# Altium footprint library WP-SMBU.PcbLib: 22 footprints (part 2 of 2)
Each footprint in its own frame and in the unit in brackets; x right, y up, seen from the top. Pads: shape width x height; smd on the part's side, far side on the other; paste and mask are expansions set on the pad; w line width, h text height; cw(c..) or ccw(c..) is an arc to the next point about the centre after c.
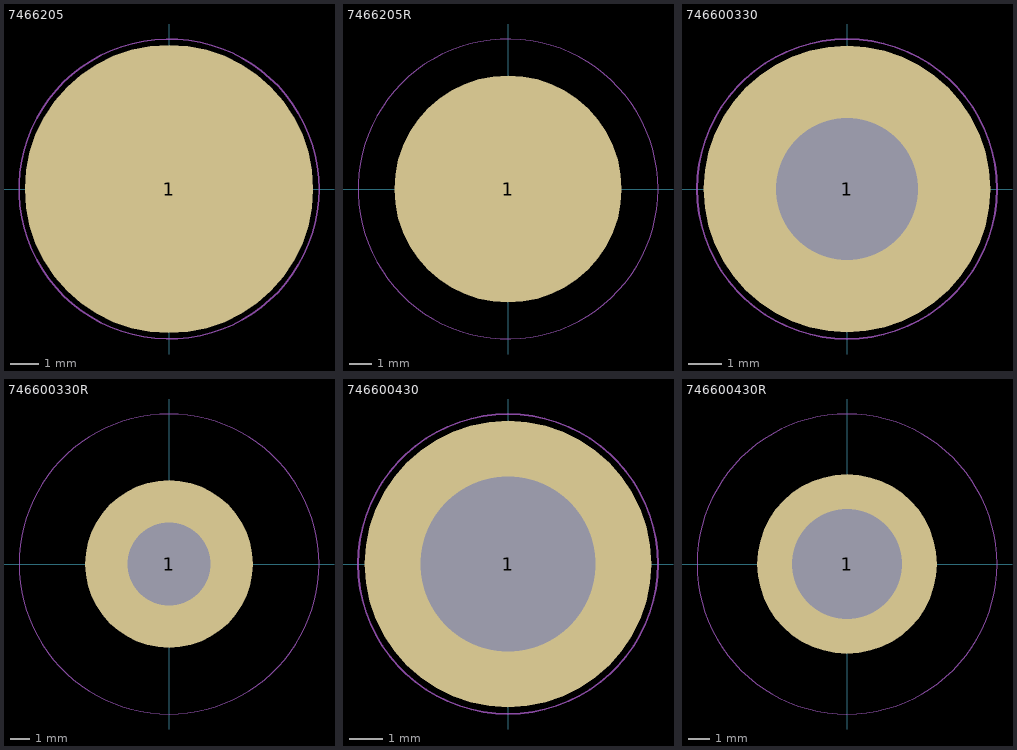
[diagram p1: the footprints below, top view; thin cyan lines are the x and y axes]

## 7466205 [mm] "SMD with internal blind-hole thread, M5 - 4 mm"
height 7
pads (1):
  round 10 smd paste-403.566: 1(0,0)
Top Paste:
  region: 0.5,4.874 0.778,4.846 1.323,4.726 1.852,4.545 2.356,4.305 2.83,4.01 3.267,3.662 3.662,3.267 4.01,2.83 4.305,2.356 4.545,1.852 4.726,1.323 4.846,0.778 4.874,0.5 0.5,0.5
  region: 4.874,-0.5 4.846,-0.778 4.726,-1.323 4.545,-1.852 4.305,-2.356 4.01,-2.83 3.662,-3.267 3.267,-3.662 2.83,-4.01 2.356,-4.305 1.852,-4.545 1.323,-4.726 0.778,-4.846 0.5,-4.874 0.5,-0.5
  region: -0.5,-4.874 -0.778,-4.846 -1.323,-4.726 -1.852,-4.545 -2.356,-4.305 -2.83,-4.01 -3.267,-3.662 -3.662,-3.267 -4.01,-2.83 -4.305,-2.356 -4.545,-1.852 -4.726,-1.323 -4.846,-0.778 -4.874,-0.5 -0.5,-0.5
  region: -4.874,0.5 -4.846,0.778 -4.726,1.323 -4.545,1.852 -4.305,2.356 -4.01,2.83 -3.662,3.267 -3.267,3.662 -2.83,4.01 -2.356,4.305 -1.852,4.545 -1.323,4.726 -0.778,4.846 -0.5,4.874 -0.5,0.5
M11 Assembly Top:
  circle w0.1: c0,0 r4.5
  text ".Designator" at -1.75,-0.75 h1.5
M13 3D Top:
  circle w0.1: c0,0 r4.5
M15 Courtyard Top:
  circle w0.05: c0,0 r5.2
  lines w0.05: -0.5,0 0.5,0 ; 0,-0.5 0,0.5
3D body "7466205.stp": height 7, standoff 0, extent -4.5,-4.5 4.5,4.5

## 7466205R [mm] "SMD with internal blind-hole thread, M5 - 4 mm"
height 7
pads (1):
  round 10 smd paste-403.566: 1(0,0)
Top Paste:
  region: -4.874,0.5 -4.846,0.778 -4.726,1.323 -4.545,1.852 -4.305,2.356 -4.01,2.83 -3.662,3.267 -3.267,3.662 -2.83,4.01 -2.356,4.305 -1.852,4.545 -1.323,4.726 -0.778,4.846 -0.5,4.874 -0.5,0.5
  region: -0.5,-4.874 -0.778,-4.846 -1.323,-4.726 -1.852,-4.545 -2.356,-4.305 -2.83,-4.01 -3.267,-3.662 -3.662,-3.267 -4.01,-2.83 -4.305,-2.356 -4.545,-1.852 -4.726,-1.323 -4.846,-0.778 -4.874,-0.5 -0.5,-0.5
  region: 4.874,-0.5 4.846,-0.778 4.726,-1.323 4.545,-1.852 4.305,-2.356 4.01,-2.83 3.662,-3.267 3.267,-3.662 2.83,-4.01 2.356,-4.305 1.852,-4.545 1.323,-4.726 0.778,-4.846 0.5,-4.874 0.5,-0.5
  region: 0.5,4.874 0.778,4.846 1.323,4.726 1.852,4.545 2.356,4.305 2.83,4.01 3.267,3.662 3.662,3.267 4.01,2.83 4.305,2.356 4.545,1.852 4.726,1.323 4.846,0.778 4.874,0.5 0.5,0.5
M11 Assembly Top:
  circle w0.1: c0,0 r4.5
  text ".Designator" at -1.75,-0.75 h1.5
M13 3D Top:
  circle w0.1: c0,0 r4.5
M15 Courtyard Top:
  circle w0.05: c0,0 r6.6
  lines w0.05: -0.5,0 0.5,0 ; 0,-0.5 0,0.5
3D body "7466205.stp": height 7, standoff 0, extent -4.5,-4.5 4.5,4.5

## 746600330 [mm] "SMD with internal through-hole thread, M3-4mm"
height 3
pads (1):
  round 8.5 / inner round 0 / far side round 0 hole 4.2 unplated: 1(0,0)
Top Paste:
  region: -4.12,0.5 -2.194,0.5 -2.153,0.653 -2.041,0.947 -1.888,1.223 -1.699,1.476 -1.476,1.699 -1.223,1.888 -0.947,2.041 -0.653,2.153 -0.5,2.194 -0.5,4.12 -0.729,4.092 -1.176,3.986 -1.61,3.832 -2.024,3.63 -2.413,3.385 -2.772,3.097 -3.097,2.772 -3.385,2.412 -3.631,2.023 -3.832,1.61 -3.986,1.176 -4.092,0.728
  region: -0.5,-4.12 -0.5,-2.194 -0.653,-2.153 -0.947,-2.041 -1.223,-1.888 -1.476,-1.699 -1.699,-1.476 -1.888,-1.223 -2.041,-0.947 -2.153,-0.653 -2.194,-0.5 -4.12,-0.5 -4.092,-0.729 -3.986,-1.176 -3.832,-1.61 -3.63,-2.024 -3.385,-2.413 -3.097,-2.772 -2.772,-3.097 -2.412,-3.385 -2.023,-3.631 -1.61,-3.832 -1.176,-3.986 -0.728,-4.092
  region: 4.12,-0.5 2.194,-0.5 2.153,-0.653 2.041,-0.947 1.888,-1.223 1.699,-1.476 1.476,-1.699 1.223,-1.888 0.947,-2.041 0.653,-2.153 0.5,-2.194 0.5,-4.12 0.729,-4.092 1.176,-3.986 1.61,-3.832 2.024,-3.63 2.413,-3.385 2.772,-3.097 3.097,-2.772 3.385,-2.412 3.631,-2.023 3.832,-1.61 3.986,-1.176 4.092,-0.728
  region: 0.5,4.12 0.5,2.194 0.653,2.153 0.947,2.041 1.223,1.888 1.476,1.699 1.699,1.476 1.888,1.223 2.041,0.947 2.153,0.653 2.194,0.5 4.12,0.5 4.092,0.729 3.986,1.176 3.832,1.61 3.63,2.024 3.385,2.413 3.097,2.772 2.772,3.097 2.412,3.385 2.023,3.631 1.61,3.832 1.176,3.986 0.728,4.092
M11 Assembly Top:
  circle w0.1: c0,0 r3.5
  text ".Designator" at -1.75,-0.75 h1.5
M13 3D Top:
  circle w0.1: c0,0 r3.5
M15 Courtyard Top:
  circle w0.05: c0,0 r4.45
  lines w0.05: -0.5,0 0.5,0 ; 0,-0.5 0,0.5
3D body "746600330.stp": height 3, standoff -1, extent -3.5,-3.499 3.5,3.499

## 746600330R [mm] "SMD with internal through-hole thread, M3-4mm"
height 3
pads (1):
  round 8.5 / inner round 0 / far side round 0 hole 4.2 unplated: 1(0,0)
Top Paste:
  region: -4.12,0.5 -2.194,0.5 -2.153,0.653 -2.041,0.947 -1.888,1.223 -1.699,1.476 -1.476,1.699 -1.223,1.888 -0.947,2.041 -0.653,2.153 -0.5,2.194 -0.5,4.12 -0.729,4.092 -1.176,3.986 -1.61,3.832 -2.024,3.63 -2.413,3.385 -2.772,3.097 -3.097,2.772 -3.385,2.412 -3.631,2.023 -3.832,1.61 -3.986,1.176 -4.092,0.728
  region: -0.5,-4.12 -0.5,-2.194 -0.653,-2.153 -0.947,-2.041 -1.223,-1.888 -1.476,-1.699 -1.699,-1.476 -1.888,-1.223 -2.041,-0.947 -2.153,-0.653 -2.194,-0.5 -4.12,-0.5 -4.092,-0.729 -3.986,-1.176 -3.832,-1.61 -3.63,-2.024 -3.385,-2.413 -3.097,-2.772 -2.772,-3.097 -2.412,-3.385 -2.023,-3.631 -1.61,-3.832 -1.176,-3.986 -0.728,-4.092
  region: 4.12,-0.5 2.194,-0.5 2.153,-0.653 2.041,-0.947 1.888,-1.223 1.699,-1.476 1.476,-1.699 1.223,-1.888 0.947,-2.041 0.653,-2.153 0.5,-2.194 0.5,-4.12 0.729,-4.092 1.176,-3.986 1.61,-3.832 2.024,-3.63 2.413,-3.385 2.772,-3.097 3.097,-2.772 3.385,-2.412 3.631,-2.023 3.832,-1.61 3.986,-1.176 4.092,-0.728
  region: 0.5,4.12 0.5,2.194 0.653,2.153 0.947,2.041 1.223,1.888 1.476,1.699 1.699,1.476 1.888,1.223 2.041,0.947 2.153,0.653 2.194,0.5 4.12,0.5 4.092,0.729 3.986,1.176 3.832,1.61 3.63,2.024 3.385,2.413 3.097,2.772 2.772,3.097 2.412,3.385 2.023,3.631 1.61,3.832 1.176,3.986 0.728,4.092
M11 Assembly Top:
  circle w0.1: c0,0 r3.5
  text ".Designator" at -1.75,-0.75 h1.5
M13 3D Top:
  circle w0.1: c0,0 r3.5
M15 Courtyard Top:
  circle w0.05: c0,0 r7.6
  lines w0.05: -0.5,0 0.5,0 ; 0,-0.5 0,0.5
3D body "746600330.stp": height 3, standoff -1, extent -3.5,-3.499 3.5,3.499

## 746600430 [mm] "SMD with internal through-hole thread, M4-4mm"
height 3
pads (1):
  round 8.5 / inner round 0 / far side round 0 hole 5.2 unplated: 1(0,0)
Top Paste:
  region: 0.5,4.12 0.5,2.704 0.702,2.659 1.093,2.523 1.46,2.331 1.793,2.085 2.085,1.793 2.331,1.459 2.523,1.093 2.659,0.702 2.704,0.5 4.12,0.5 4.092,0.728 3.986,1.176 3.832,1.61 3.631,2.023 3.385,2.412 3.097,2.772 2.772,3.097 2.412,3.385 2.023,3.631 1.61,3.832 1.176,3.986 0.728,4.092
  region: 4.12,-0.5 2.704,-0.5 2.659,-0.702 2.523,-1.093 2.331,-1.46 2.085,-1.793 1.793,-2.085 1.459,-2.331 1.093,-2.523 0.702,-2.659 0.5,-2.704 0.5,-4.12 0.728,-4.092 1.176,-3.986 1.61,-3.832 2.023,-3.631 2.412,-3.385 2.772,-3.097 3.097,-2.772 3.385,-2.412 3.631,-2.023 3.832,-1.61 3.986,-1.176 4.092,-0.728
  region: -0.5,-4.12 -0.5,-2.704 -0.702,-2.659 -1.093,-2.523 -1.46,-2.331 -1.793,-2.085 -2.085,-1.793 -2.331,-1.459 -2.523,-1.093 -2.659,-0.702 -2.704,-0.5 -4.12,-0.5 -4.092,-0.728 -3.986,-1.176 -3.832,-1.61 -3.631,-2.023 -3.385,-2.412 -3.097,-2.772 -2.772,-3.097 -2.412,-3.385 -2.023,-3.631 -1.61,-3.832 -1.176,-3.986 -0.728,-4.092
  region: -4.12,0.5 -2.704,0.5 -2.659,0.702 -2.523,1.093 -2.331,1.46 -2.085,1.793 -1.793,2.085 -1.459,2.331 -1.093,2.523 -0.702,2.659 -0.5,2.704 -0.5,4.12 -0.728,4.092 -1.176,3.986 -1.61,3.832 -2.023,3.631 -2.412,3.385 -2.772,3.097 -3.097,2.772 -3.385,2.412 -3.631,2.023 -3.832,1.61 -3.986,1.176 -4.092,0.728
M11 Assembly Top:
  circle w0.1: c0,0 r3.5
  text ".Designator" at -1.75,-0.75 h1.5
M13 3D Top:
  circle w0.1: c0,0 r3.5
M15 Courtyard Top:
  circle w0.05: c0,0 r4.45
  lines w0.05: -0.5,0 0.5,0 ; 0,-0.5 0,0.5
3D body "746600430.stp": height 3, standoff -1, extent -3.5,-3.493 3.473,3.493

## 746600430R [mm] "SMD with internal through-hole thread, M4-4mm"
height 3
pads (1):
  round 8.5 / inner round 0 / far side round 0 hole 5.2 unplated: 1(0,0)
Top Paste:
  region: 0.5,4.12 0.5,2.704 0.702,2.659 1.093,2.523 1.46,2.331 1.793,2.085 2.085,1.793 2.331,1.459 2.523,1.093 2.659,0.702 2.704,0.5 4.12,0.5 4.092,0.728 3.986,1.176 3.832,1.61 3.631,2.023 3.385,2.412 3.097,2.772 2.772,3.097 2.412,3.385 2.023,3.631 1.61,3.832 1.176,3.986 0.728,4.092
  region: 4.12,-0.5 2.704,-0.5 2.659,-0.702 2.523,-1.093 2.331,-1.46 2.085,-1.793 1.793,-2.085 1.459,-2.331 1.093,-2.523 0.702,-2.659 0.5,-2.704 0.5,-4.12 0.728,-4.092 1.176,-3.986 1.61,-3.832 2.023,-3.631 2.412,-3.385 2.772,-3.097 3.097,-2.772 3.385,-2.412 3.631,-2.023 3.832,-1.61 3.986,-1.176 4.092,-0.728
  region: -0.5,-4.12 -0.5,-2.704 -0.702,-2.659 -1.093,-2.523 -1.46,-2.331 -1.793,-2.085 -2.085,-1.793 -2.331,-1.459 -2.523,-1.093 -2.659,-0.702 -2.704,-0.5 -4.12,-0.5 -4.092,-0.728 -3.986,-1.176 -3.832,-1.61 -3.631,-2.023 -3.385,-2.412 -3.097,-2.772 -2.772,-3.097 -2.412,-3.385 -2.023,-3.631 -1.61,-3.832 -1.176,-3.986 -0.728,-4.092
  region: -4.12,0.5 -2.704,0.5 -2.659,0.702 -2.523,1.093 -2.331,1.46 -2.085,1.793 -1.793,2.085 -1.459,2.331 -1.093,2.523 -0.702,2.659 -0.5,2.704 -0.5,4.12 -0.728,4.092 -1.176,3.986 -1.61,3.832 -2.023,3.631 -2.412,3.385 -2.772,3.097 -3.097,2.772 -3.385,2.412 -3.631,2.023 -3.832,1.61 -3.986,1.176 -4.092,0.728
M11 Assembly Top:
  circle w0.1: c0,0 r3.5
  text ".Designator" at -1.75,-0.75 h1.5
M13 3D Top:
  circle w0.1: c0,0 r3.5
M15 Courtyard Top:
  circle w0.05: c0,0 r7.1
  lines w0.05: -0.5,0 0.5,0 ; 0,-0.5 0,0.5
3D body "746600430.stp": height 3, standoff -1, extent -3.5,-3.493 3.473,3.493